# Altium footprint library USBUF.PcbLib: 1 footprints
Each footprint in its own frame and in the unit in brackets; x right, y up, seen from the top. Pads: shape width x height; smd on the part's side, far side on the other; paste and mask are expansions set on the pad; w line width, h text height; cw(c..) or ccw(c..) is an arc to the next point about the centre after c.
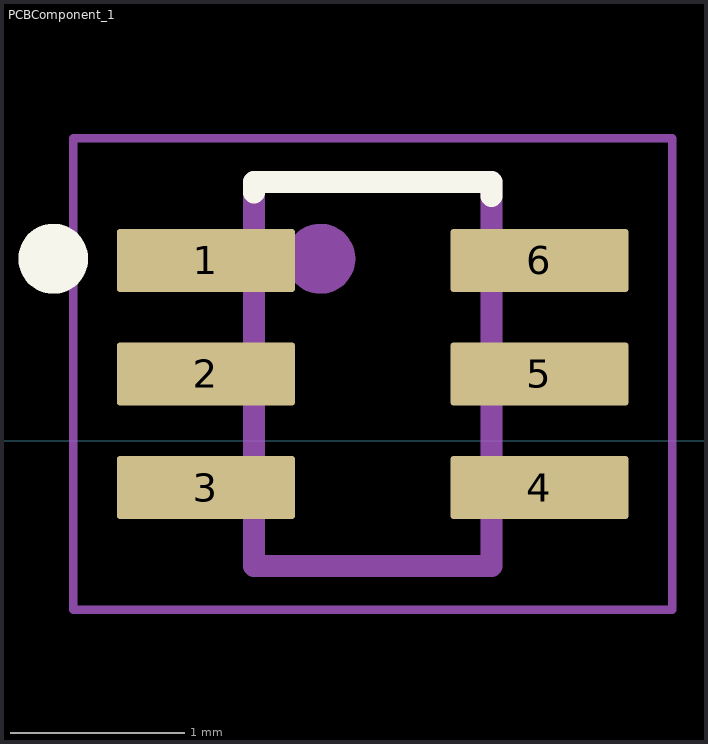
[diagram p0: the footprint, top view; thin cyan lines are the x and y axes]

## PCBComponent_1 [mm]
pads (6):
  rrect9% 1.02x0.36 smd: 1(1.331,1.031) 2(1.331,0.381) 3(1.331,-0.269) 4(3.241,-0.269) 5(3.241,0.381) 6(3.241,1.031)
Top Overlay:
  circle w0.2: c0.457,1.041 r0.1
  lines w0.127: 1.606,1.42 1.606,1.481 2.966,1.481 2.966,1.4
Mechanical 13:
  circle w0.2: c1.987,1.041 r0.1
  lines w0.127: 1.606,-0.719 1.606,1.481 2.966,1.481 2.966,-0.719 1.606,-0.719
Mechanical 15:
  lines w0.05: 0.571,-0.969 0.571,1.731 4.001,1.731 4.001,-0.969 0.571,-0.969